# Altium integrated library Integrated Library Deneme.IntLib: 1 symbol
Pins are listed as number, name and electrical type; pins without a type are passive.

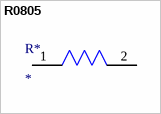
[diagram p0: symbol R0805]

## R0805
designator R*
R0805_1K
pins: 1, 2